# EAGLE library part 62003211121 (library Eagle_BOARD-TO-BOARD_CONNECTORS (rev18b))
WR-PHD 2.00mm Pin Header, 32 Pins=>Code : Con_BTB_PHD_2.00_1_THT_62003211121 <http://katalog.we-online.de/media/images/eican/Con_BTB_PHD_2.00_1_THT_6200xx11121_pf2.jpg> Details see: http://katalog.we-online.de/en/em/620_0xx_111_21 Created 2014-06-03, Karrer Zheng 2014 (C) Würth Elektronik
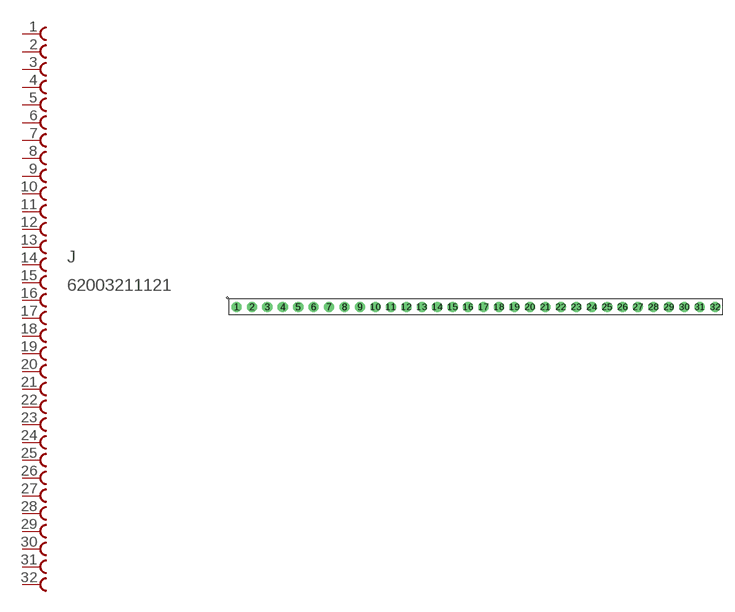
[diagram p221: symbol with the pads of 62003211121; footprint 62003211121]

Designator prefix J

## 62003211121  [62003211121]
1  1  pas
2  2  pas
3  3  pas
4  4  pas
5  5  pas
6  6  pas
7  7  pas
8  8  pas
9  9  pas
10  10  pas
11  11  pas
12  12  pas
13  13  pas
14  14  pas
15  15  pas
16  16  pas
17  17  pas
18  18  pas
19  19  pas
20  20  pas
21  21  pas
22  22  pas
23  23  pas
24  24  pas
25  25  pas
26  26  pas
27  27  pas
28  28  pas
29  29  pas
30  30  pas
31  31  pas
32  32  pas

## Footprint 62003211121 (pad centres in mm)
WR-PHD 2.00mm Pin Header, 32 Pins
drill 0.8: 1 -31,0; 2 -29,0; 3 -27,0; 4 -25,0; 5 -23,0; 6 -21,0; 7 -19,0; 8 -17,0; 9 -15,0; 10 -13,0; 11 -11,0; 12 -9,0; 13 -7,0; 14 -5,0; 15 -3,0; 16 -1,0; 17 1,0; 18 3,0; 19 5,0; 20 7,0; 21 9,0; 22 11,0; 23 13,0; 24 15,0; 25 17,0; 26 19,0; 27 21,0; 28 23,0; 29 25,0; 30 27,0; 31 29,0; 32 31,0